# EAGLE library part MIC5891-REV (library edeca)
8-Bit Serial-Input Latched Source Driver (output pin order reversed in symbol, for easier use on schematics)
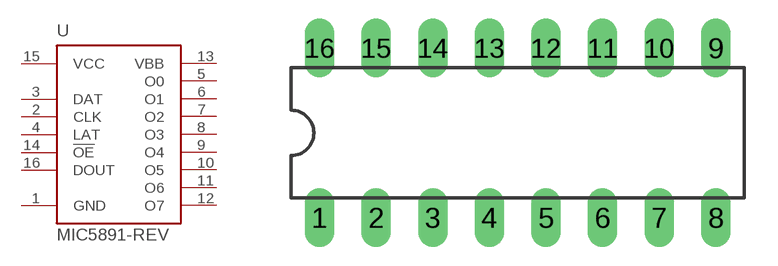
[diagram p3: symbol with the pads of DIL16; footprint DIL16]

Designator prefix -

## MIC5891-REV  [DIL16]
1  GND  pwr
2  CLK
3  DAT  in
4  LAT
5  O0
6  O1
7  O2
8  O3
9  O4
10  O5
11  O6
12  O7
13  VBB  pwr
14  !OE
15  VCC  pwr
16  DOUT  out

## Footprint DIL16 (pad centres in mm)
Dual In Line
drill 0.813 long: 1 -8.89,-3.81; 2 -6.35,-3.81; 3 -3.81,-3.81; 4 -1.27,-3.81; 5 1.27,-3.81; 6 3.81,-3.81; 7 6.35,-3.81; 8 8.89,-3.81; 9 8.89,3.81; 10 6.35,3.81; 11 3.81,3.81; 12 1.27,3.81; 13 -1.27,3.81; 14 -3.81,3.81; 15 -6.35,3.81; 16 -8.89,3.81